# Altium footprint library Miscellaneous Connectors.PcbLib: 143 footprints (part 1 of 9)
Each footprint in its own frame and in the unit in brackets; x right, y up, seen from the top. Pads: shape width x height; smd on the part's side, far side on the other; paste and mask are expansions set on the pad; w line width, h text height; cw(c..) or ccw(c..) is an arc to the next point about the centre after c.
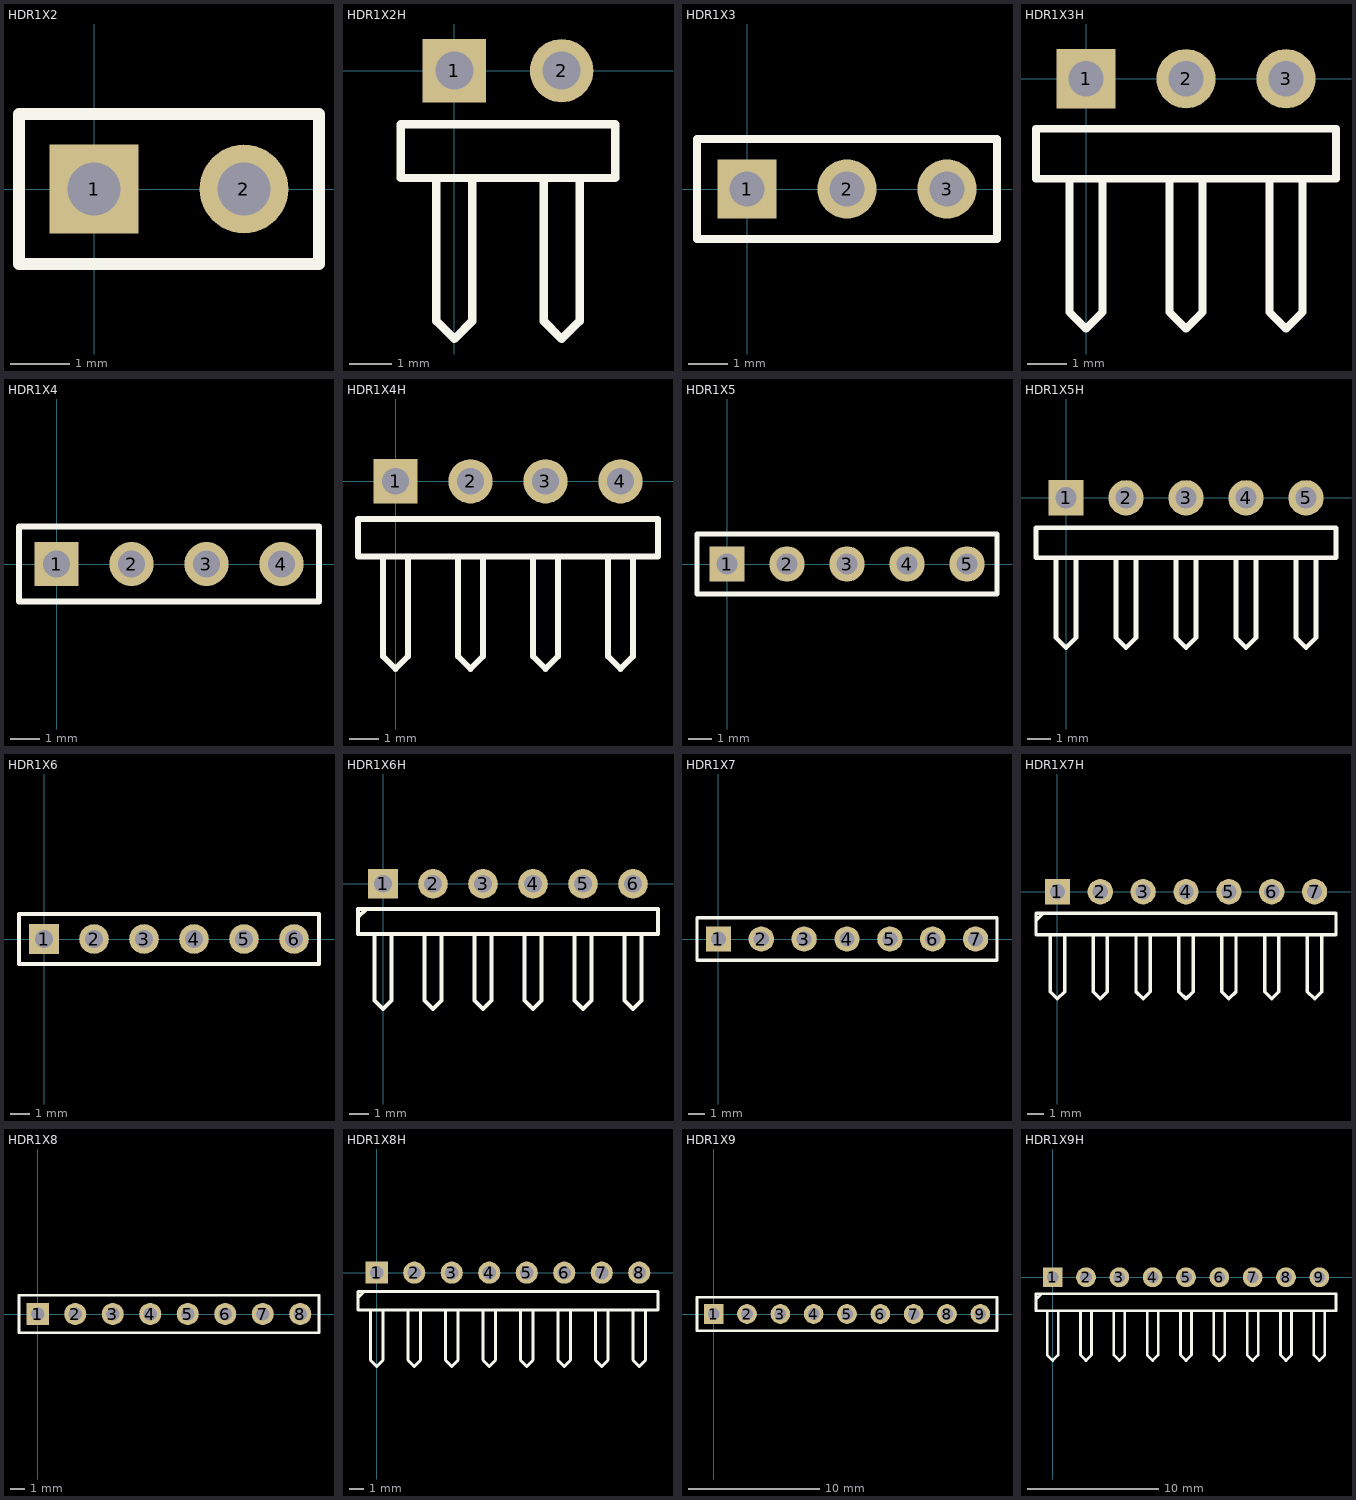
[diagram p0: the footprints below, top view; thin cyan lines are the x and y axes]

## HDR1X2 [mm] "Connector; Header; 2 Position"
pads (2):
  rect 1.5x1.5 hole 0.9: 1(0,0)
  round 1.5 hole 0.9: 2(2.54,0)
Top Overlay:
  lines w0.2: -1.27,-1.27 -1.27,1.27 3.81,1.27 3.81,-1.27 -1.27,-1.27

## HDR1X2H [mm] "Connector; Header; 2 Position; Right Angle"
pads (2):
  rect 1.5x1.5 hole 0.9: 1(0,0)
  round 1.5 hole 0.9: 2(2.54,0)
Top Overlay:
  lines w0.2: -0.423,-2.54 -0.423,-5.927 0,-6.35 0.423,-5.927 0.423,-2.54 ; 2.117,-2.54 2.117,-5.927 2.54,-6.35 2.963,-5.927 2.963,-2.54 ; -1.27,-2.54 3.81,-2.54 3.81,-1.27 -1.27,-1.27 -1.27,-2.54

## HDR1X3 [mm] "Connector; Header; 3 Position"
pads (3):
  rect 1.5x1.5 hole 0.9: 1(0,0)
  round 1.5 hole 0.9: 2(2.54,0) 3(5.08,0)
Top Overlay:
  lines w0.2: -1.27,-1.27 -1.27,1.27 6.35,1.27 6.35,-1.27 -1.27,-1.27

## HDR1X3H [mm] "Connector; Header; 3 Position; Right Angle"
pads (3):
  rect 1.5x1.5 hole 0.9: 1(0,0)
  round 1.5 hole 0.9: 2(2.54,0) 3(5.08,0)
Top Overlay:
  lines w0.2: -0.423,-2.54 -0.423,-5.927 0,-6.35 0.423,-5.927 0.423,-2.54 ; 2.117,-2.54 2.117,-5.927 2.54,-6.35 2.963,-5.927 2.963,-2.54 ; 4.657,-2.54 4.657,-5.927 5.08,-6.35 5.503,-5.927 5.503,-2.54 ; -1.27,-2.54 -1.27,-1.27 6.35,-1.27 6.35,-2.54 -1.27,-2.54

## HDR1X4 [mm] "Connector; Header; 4 Position"
pads (4):
  rect 1.5x1.5 hole 0.9: 1(0,0)
  round 1.5 hole 0.9: 2(2.54,0) 3(5.08,0) 4(7.62,0)
Top Overlay:
  lines w0.2: -1.27,-1.27 8.89,-1.27 8.89,1.27 -1.27,1.27 -1.27,-1.27

## HDR1X4H [mm] "Connector; Header; 4 Position; Right Angle"
pads (4):
  rect 1.5x1.5 hole 0.9: 1(0,0)
  round 1.5 hole 0.9: 2(2.54,0) 3(5.08,0) 4(7.62,0)
Top Overlay:
  lines w0.2: -0.423,-2.54 -0.423,-5.927 0,-6.35 0.423,-5.927 0.423,-2.54 ; 2.117,-2.54 2.117,-5.927 2.54,-6.35 2.963,-5.927 2.963,-2.54 ; 4.657,-2.54 4.657,-5.927 5.08,-6.35 5.503,-5.927 5.503,-2.54 ; 7.197,-2.54 7.197,-5.927 7.62,-6.35 8.043,-5.927 8.043,-2.54 ; -1.27,-2.54 8.89,-2.54 8.89,-1.27 -1.27,-1.27 -1.27,-2.54

## HDR1X5 [mm] "Connector; Header; 5 Position"
pads (5):
  rect 1.5x1.5 hole 0.9: 1(0,0)
  round 1.5 hole 0.9: 2(2.54,0) 3(5.08,0) 4(7.62,0) 5(10.16,0)
Top Overlay:
  lines w0.2: -1.27,-1.27 11.43,-1.27 11.43,1.27 -1.27,1.27 -1.27,-1.27

## HDR1X5H [mm] "Connector; Header; 5 Position; Right Angle"
pads (5):
  rect 1.5x1.5 hole 0.9: 1(0,0)
  round 1.5 hole 0.9: 2(2.54,0) 3(5.08,0) 4(7.62,0) 5(10.16,0)
Top Overlay:
  lines w0.2: -0.423,-2.54 -0.423,-5.927 0,-6.35 0.423,-5.927 0.423,-2.54 ; 2.117,-2.54 2.117,-5.927 2.54,-6.35 2.963,-5.927 2.963,-2.54 ; 4.657,-2.54 4.657,-5.927 5.08,-6.35 5.503,-5.927 5.503,-2.54 ; 7.197,-2.54 7.197,-5.927 7.62,-6.35 8.043,-5.927 8.043,-2.54 ; 9.737,-2.54 9.737,-5.927 10.16,-6.35 10.583,-5.927 10.583,-2.54 ; -1.27,-2.54 11.43,-2.54 11.43,-1.27 -1.27,-1.27 -1.27,-2.54

## HDR1X6 [mm] "Connector; Header; 6 Position"
pads (6):
  rect 1.5x1.5 hole 0.9: 1(0,0)
  round 1.5 hole 0.9: 2(2.54,0) 3(5.08,0) 4(7.62,0) 5(10.16,0) 6(12.7,0)
Top Overlay:
  lines w0.2: -1.27,-1.27 13.97,-1.27 13.97,1.27 -1.27,1.27 -1.27,-1.27

## HDR1X6H [mm] "Connector; Header; 6 Position; Right Angle"
pads (6):
  rect 1.5x1.5 hole 0.9: 1(0,0)
  round 1.5 hole 0.9: 2(2.54,0) 3(5.08,0) 4(7.62,0) 5(10.16,0) 6(12.7,0)
Top Overlay:
  lines w0.2: -1.27,-1.693 -0.847,-1.27 ; -0.423,-2.54 -0.423,-5.927 0,-6.35 0.423,-5.927 0.423,-2.54 ; 2.117,-2.54 2.117,-5.927 2.54,-6.35 2.963,-5.927 2.963,-2.54 ; 4.657,-2.54 4.657,-5.927 5.08,-6.35 5.503,-5.927 5.503,-2.54 ; 7.197,-2.54 7.197,-5.927 7.62,-6.35 8.043,-5.927 8.043,-2.54 ; 9.737,-2.54 9.737,-5.927 10.16,-6.35 10.583,-5.927 10.583,-2.54 ; 12.277,-2.54 12.277,-5.927 12.7,-6.35 13.123,-5.927 13.123,-2.54 ; -1.27,-2.54 -1.27,-1.27 13.97,-1.27 13.97,-2.54 -1.27,-2.54

## HDR1X7 [mm] "Connector; Header; 7 Position"
pads (7):
  rect 1.5x1.5 hole 0.9: 1(0,0)
  round 1.5 hole 0.9: 2(2.54,0) 3(5.08,0) 4(7.62,0) 5(10.16,0) 6(12.7,0) 7(15.24,0)
Top Overlay:
  lines w0.2: -1.27,-1.27 16.51,-1.27 16.51,1.27 -1.27,1.27 -1.27,-1.27

## HDR1X7H [mm] "Connector; Header; 7 Position; Right Angle"
pads (7):
  rect 1.5x1.5 hole 0.9: 1(0,0)
  round 1.5 hole 0.9: 2(2.54,0) 3(5.08,0) 4(7.62,0) 5(10.16,0) 6(12.7,0) 7(15.24,0)
Top Overlay:
  lines w0.2: -1.27,-1.693 -0.847,-1.27 ; -0.423,-2.54 -0.423,-5.927 0,-6.35 0.423,-5.927 0.423,-2.54 ; 2.117,-2.54 2.117,-5.927 2.54,-6.35 2.963,-5.927 2.963,-2.54 ; 4.657,-2.54 4.657,-5.927 5.08,-6.35 5.503,-5.927 5.503,-2.54 ; 7.197,-2.54 7.197,-5.927 7.62,-6.35 8.043,-5.927 8.043,-2.54 ; 9.737,-2.54 9.737,-5.927 10.16,-6.35 10.583,-5.927 10.583,-2.54 ; 12.277,-2.54 12.277,-5.927 12.7,-6.35 13.123,-5.927 13.123,-2.54 ; 14.817,-2.54 14.817,-5.927 15.24,-6.35 15.663,-5.927 15.663,-2.54 ; -1.27,-2.54 -1.27,-1.27 16.51,-1.27 16.51,-2.54 -1.27,-2.54

## HDR1X8 [mm] "Connector; Header; 8 Position"
pads (8):
  rect 1.5x1.5 hole 0.9: 1(0,0)
  round 1.5 hole 0.9: 2(2.54,0) 3(5.08,0) 4(7.62,0) 5(10.16,0) 6(12.7,0) 7(15.24,0) 8(17.78,0)
Top Overlay:
  lines w0.2: -1.27,-1.27 -1.27,1.27 19.05,1.27 19.05,-1.27 -1.27,-1.27

## HDR1X8H [mm] "Connector; Header; 8 Position; Right Angle"
pads (8):
  rect 1.5x1.5 hole 0.9: 1(0,0)
  round 1.5 hole 0.9: 2(2.54,0) 3(5.08,0) 4(7.62,0) 5(10.16,0) 6(12.7,0) 7(15.24,0) 8(17.78,0)
Top Overlay:
  lines w0.2: -1.27,-1.693 -0.847,-1.27 ; -0.423,-2.54 -0.423,-5.927 0,-6.35 0.423,-5.927 0.423,-2.54 ; 2.117,-2.54 2.117,-5.927 2.54,-6.35 2.963,-5.927 2.963,-2.54 ; 4.657,-2.54 4.657,-5.927 5.08,-6.35 5.503,-5.927 5.503,-2.54 ; 7.197,-2.54 7.197,-5.927 7.62,-6.35 8.043,-5.927 8.043,-2.54 ; 9.737,-2.54 9.737,-5.927 10.16,-6.35 10.583,-5.927 10.583,-2.54 ; 12.277,-2.54 12.277,-5.927 12.7,-6.35 13.123,-5.927 13.123,-2.54 ; 14.817,-2.54 14.817,-5.927 15.24,-6.35 15.663,-5.927 15.663,-2.54 ; 17.357,-2.54 17.357,-5.927 17.78,-6.35 18.203,-5.927 18.203,-2.54 ; -1.27,-2.54 -1.27,-1.27 19.05,-1.27 19.05,-2.54 -1.27,-2.54

## HDR1X9 [mm] "Connector; Header; 9 Position"
pads (9):
  rect 1.5x1.5 hole 0.9: 1(0,0)
  round 1.5 hole 0.9: 2(2.54,0) 3(5.08,0) 4(7.62,0) 5(10.16,0) 6(12.7,0) 7(15.24,0) 8(17.78,0) 9(20.32,0)
Top Overlay:
  lines w0.2: -1.27,-1.27 -1.27,1.27 21.59,1.27 21.59,-1.27 -1.27,-1.27

## HDR1X9H [mm] "Connector; Header; 9 Position; Right Angle"
pads (9):
  rect 1.5x1.5 hole 0.9: 1(0,0)
  round 1.5 hole 0.9: 2(2.54,0) 3(5.08,0) 4(7.62,0) 5(10.16,0) 6(12.7,0) 7(15.24,0) 8(17.78,0) 9(20.32,0)
Top Overlay:
  lines w0.2: -1.27,-1.693 -0.847,-1.27 ; -0.423,-2.54 -0.423,-5.927 0,-6.35 0.423,-5.927 0.423,-2.54 ; 2.117,-2.54 2.117,-5.927 2.54,-6.35 2.963,-5.927 2.963,-2.54 ; 4.657,-2.54 4.657,-5.927 5.08,-6.35 5.503,-5.927 5.503,-2.54 ; 7.197,-2.54 7.197,-5.927 7.62,-6.35 8.043,-5.927 8.043,-2.54 ; 9.737,-2.54 9.737,-5.927 10.16,-6.35 10.583,-5.927 10.583,-2.54 ; 12.277,-2.54 12.277,-5.927 12.7,-6.35 13.123,-5.927 13.123,-2.54 ; 14.817,-2.54 14.817,-5.927 15.24,-6.35 15.663,-5.927 15.663,-2.54 ; 17.357,-2.54 17.357,-5.927 17.78,-6.35 18.203,-5.927 18.203,-2.54 ; 19.897,-2.54 19.897,-5.927 20.32,-6.35 20.743,-5.927 20.743,-2.54 ; -1.27,-2.54 21.59,-2.54 21.59,-1.27 -1.27,-1.27 -1.27,-2.54